# Altium schematic symbol library ADG758BCPZ-REEL7.SchLib: 1 symbol
Pins are listed as number, name and electrical type; pins without a type are passive.

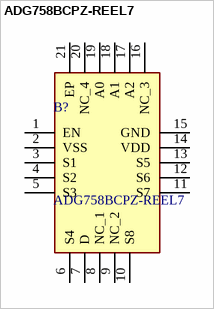
[diagram p0: symbol ADG758BCPZ-REEL7]

## ADG758BCPZ-REEL7
designator B?
Analog Multiplexer Single 8:1 20-Pin LFCSP EP T/R; Manufacturer_Name: Analog Devices; Geometry.Height: 0.8mm; Mouser Part Number: 584-ADG758BCPZ-R7; Mouser Price/Stock: https://www.mouser.co.uk/ProductDetail/Analog-Devices/ADG758BCPZ-REEL7?qs=BpaRKvA4VqHkaBuI1D%252BNjw%3D%3D; Manufacturer_Part_Number: ADG758BCPZ-REEL7; Datasheet Link: https://www.mouser.in/datasheet/2/609/ADG758_759-1502992.pdf
footprint QFN50P400X400X80-21N-D
pins: 1 EN, 2 VSS, 3 S1, 4 S2, 5 S3, 6 S4, 7 D, 8 NC_1, 9 NC_2, 10 S8, 11 S7, 12 S6, 13 S5, 14 VDD, 15 GND, 16 NC_3, 17 A2, 18 A1, 19 A0, 20 NC_4, 21 EP